# Altium schematic symbol library SCH - MCU - STM32 - ST MICROELECTRONICS STM32G0C1K(C-E)UXN UFQFPN32.SchLib: 1 symbol
Pins are listed as number, name and electrical type; pins without a type are passive.

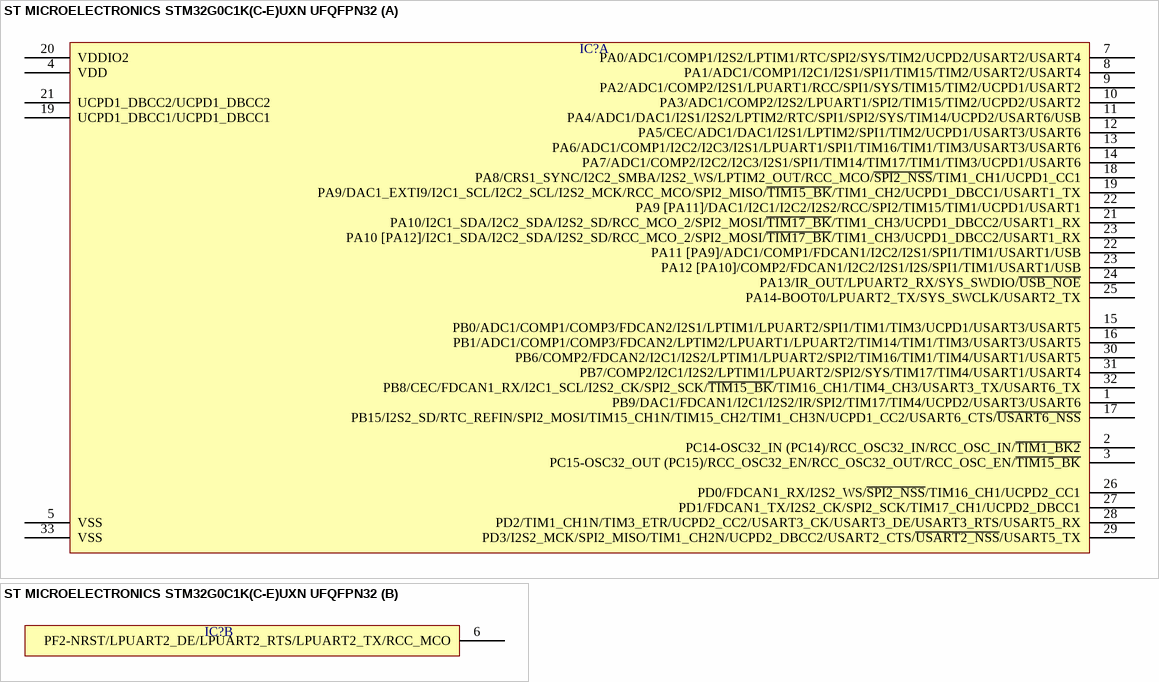
[diagram p0: symbol ST MICROELECTRONICS STM32G0C1K(C-E)UXN UFQFPN32]

## ST MICROELECTRONICS STM32G0C1K(C-E)UXN UFQFPN32
designator IC?  (value not drawn)
part A pins: 1 PB9/DAC1/FDCAN1/I2C1/I2S2/IR/SPI2/TIM17/TIM4/UCPD2/USART3/USART6, 2 PC14-OSC32_IN (PC14)/RCC_OSC32_IN/RCC_OSC_IN/~{TIM1_BK2}, 3 PC15-OSC32_OUT (PC15)/RCC_OSC32_EN/RCC_OSC32_OUT/RCC_OSC_EN/~{TIM15_BK}, 4 VDD, 5 VSS, 7 PA0/ADC1/COMP1/I2S2/LPTIM1/RTC/SPI2/SYS/TIM2/UCPD2/USART2/USART4, 8 PA1/ADC1/COMP1/I2C1/I2S1/SPI1/TIM15/TIM2/USART2/USART4, 9 PA2/ADC1/COMP2/I2S1/LPUART1/RCC/SPI1/SYS/TIM15/TIM2/UCPD1/USART2, 10 PA3/ADC1/COMP2/I2S2/LPUART1/SPI2/TIM15/TIM2/UCPD2/USART2, 11 PA4/ADC1/DAC1/I2S1/I2S2/LPTIM2/RTC/SPI1/SPI2/SYS/TIM14/UCPD2/USART6/USB, 12 PA5/CEC/ADC1/DAC1/I2S1/LPTIM2/SPI1/TIM2/UCPD1/USART3/USART6, 13 PA6/ADC1/COMP1/I2C2/I2C3/I2S1/LPUART1/SPI1/TIM16/TIM1/TIM3/USART3/USART6, 14 PA7/ADC1/COMP2/I2C2/I2C3/I2S1/SPI1/TIM14/TIM17/TIM1/TIM3/UCPD1/USART6, 15 PB0/ADC1/COMP1/COMP3/FDCAN2/I2S1/LPTIM1/LPUART2/SPI1/TIM1/TIM3/UCPD1/USART3/USART5, 16 PB1/ADC1/COMP1/COMP3/FDCAN2/LPTIM2/LPUART1/LPUART2/TIM14/TIM1/TIM3/USART3/USART5, 17 PB15/I2S2_SD/RTC_REFIN/SPI2_MOSI/TIM15_CH1N/TIM15_CH2/TIM1_CH3N/UCPD1_CC2/USART6_CTS/~{USART6_NSS}, 18 PA8/CRS1_SYNC/I2C2_SMBA/I2S2_WS/LPTIM2_OUT/RCC_MCO/~{SPI2_NSS}/TIM1_CH1/UCPD1_CC1, 19 PA9/DAC1_EXTI9/I2C1_SCL/I2C2_SCL/I2S2_MCK/RCC_MCO/SPI2_MISO/~{TIM15_BK}/TIM1_CH2/UCPD1_DBCC1/USART1_TX, 19 UCPD1_DBCC1/UCPD1_DBCC1, 20 VDDIO2, 21 PA10/I2C1_SDA/I2C2_SDA/I2S2_SD/RCC_MCO_2/SPI2_MOSI/~{TIM17_BK}/TIM1_CH3/UCPD1_DBCC2/USART1_RX, 21 UCPD1_DBCC2/UCPD1_DBCC2, 22 PA9 [PA11]/DAC1/I2C1/I2C2/I2S2/RCC/SPI2/TIM15/TIM1/UCPD1/USART1, 22 PA11 [PA9]/ADC1/COMP1/FDCAN1/I2C2/I2S1/SPI1/TIM1/USART1/USB, 23 PA10 [PA12]/I2C1_SDA/I2C2_SDA/I2S2_SD/RCC_MCO_2/SPI2_MOSI/~{TIM17_BK}/TIM1_CH3/UCPD1_DBCC2/USART1_RX, 23 PA12 [PA10]/COMP2/FDCAN1/I2C2/I2S1/I2S/SPI1/TIM1/USART1/USB, 24 PA13/IR_OUT/LPUART2_RX/SYS_SWDIO/~{USB_NOE}, 25 PA14-BOOT0/LPUART2_TX/SYS_SWCLK/USART2_TX, 26 PD0/FDCAN1_RX/I2S2_WS/~{SPI2_NSS}/TIM16_CH1/UCPD2_CC1, 27 PD1/FDCAN1_TX/I2S2_CK/SPI2_SCK/TIM17_CH1/UCPD2_DBCC1, 28 PD2/TIM1_CH1N/TIM3_ETR/UCPD2_CC2/USART3_CK/USART3_DE/USART3_RTS/USART5_RX, 29 PD3/I2S2_MCK/SPI2_MISO/TIM1_CH2N/UCPD2_DBCC2/USART2_CTS/~{USART2_NSS}/USART5_TX, 30 PB6/COMP2/FDCAN2/I2C1/I2S2/LPTIM1/LPUART2/SPI2/TIM16/TIM1/TIM4/USART1/USART5, 31 PB7/COMP2/I2C1/I2S2/LPTIM1/LPUART2/SPI2/SYS/TIM17/TIM4/USART1/USART4, 32 PB8/CEC/FDCAN1_RX/I2C1_SCL/I2S2_CK/SPI2_SCK/~{TIM15_BK}/TIM16_CH1/TIM4_CH3/USART3_TX/USART6_TX, 33 VSS
part B pins: 6 PF2-NRST/LPUART2_DE/LPUART2_RTS/LPUART2_TX/RCC_MCO